# EAGLE library part ATAVRSBIN (library atmel)
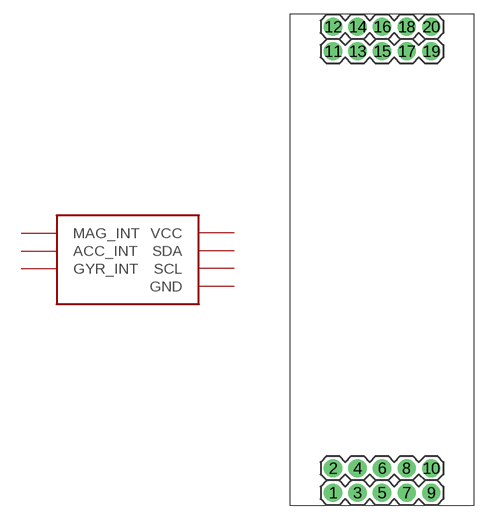
[diagram p0: symbol with the pads of ATAVRSBIN; footprint ATAVRSBIN]

Designator prefix IC

## ATAVRSBIN  [ATAVRSBIN]
11  SDA
12  SCL
13  MAG_INT
14  ACC_INT
15  GYR_INT
19  GND
20  VCC

## Footprint ATAVRSBIN (pad centres in mm)
drill 1 pad 1.88: 1 4.445,1.27; 2 4.445,3.81; 3 6.985,1.27; 4 6.985,3.81; 5 9.525,1.27; 6 9.525,3.81; 7 12.065,1.27; 8 12.065,3.81; 9 14.605,1.27; 10 14.605,3.81; 11 4.445,46.99; 12 4.445,49.53; 13 6.985,46.99; 14 6.985,49.53; 15 9.525,46.99; 16 9.525,49.53; 17 12.065,46.99; 18 12.065,49.53; 19 14.605,46.99; 20 14.605,49.53